# Altium integrated library FA16X7R2A224KNU06.IntLib: 1 symbol
Pins are listed as number, name and electrical type; pins without a type are passive.

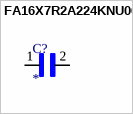
[diagram p0: symbol FA16X7R2A224KNU06]

## FA16X7R2A224KNU06
designator C?
CAP CER 0.22UF 100V X7R RADIAL; MF: TDK; MP: FA16X7R2A224KNU06; Purchase-URL: https://pricing.snapeda.com/search/part/FA16X7R2A224KNU06/?ref=eda; Value: *; Availability: In Stock; Package: Radial TDK; SnapEDA_Link: https://www.snapeda.com/parts/FA16X7R2A224KNU06/TDK/view-part/?ref=snap; Check_prices: https://www.snapeda.com/parts/FA16X7R2A224KNU06/TDK/view-part/?ref=eda; Price: None
footprint CAPRB250W50L550T350H600
pins: 1, 2